# Altium footprint library SOT-353_SC-70-5.PcbLib: 1 footprints
Each footprint in its own frame and in the unit in brackets; x right, y up, seen from the top. Pads: shape width x height; smd on the part's side, far side on the other; paste and mask are expansions set on the pad; w line width, h text height; cw(c..) or ccw(c..) is an arc to the next point about the centre after c.
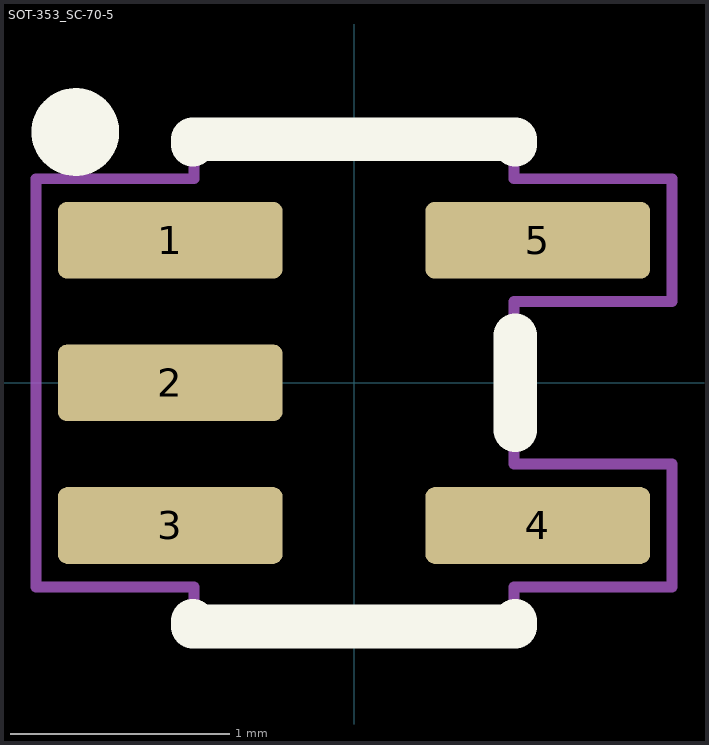
[diagram p0: the footprint, top view; thin cyan lines are the x and y axes]

## SOT-353_SC-70-5 [mm]
pads (5):
  rrect25% 1.025x0.35 smd: 1(-0.837,0.65) 2(-0.837,0) 3(-0.837,-0.65) 4(0.837,-0.65) 5(0.837,0.65)
F.SilkS:
  circle w0.2: c-1.27,1.143 r0.1
  lines w0.2: -0.735,-1.085 -0.735,-1.11 0.735,-1.11 0.735,-1.085 ; -0.735,1.085 -0.735,1.11 0.735,1.11 0.735,1.085 ; 0.735,-0.215 0.735,0.215
F.CrtYd:
  lines w0.05: -1.45,-0.93 -1.45,0.93 -0.73,0.93 -0.73,1.1 0.73,1.1 0.73,0.93 1.45,0.93 1.45,0.37 0.73,0.37 0.73,-0.37 1.45,-0.37 1.45,-0.93 0.73,-0.93 0.73,-1.1 -0.73,-1.1 -0.73,-0.93 -1.45,-0.93
3D body "SC70-5.step": height 0.95, standoff 0, extent -1.05,-1 1.05,1